# EAGLE library part EFM32_STK_G8XX_EXP_CONNECTOR_PROTOBOARD (library efm32_protoboard)
Expansion header footprint for the EFM32 STK G8xx starter kits.
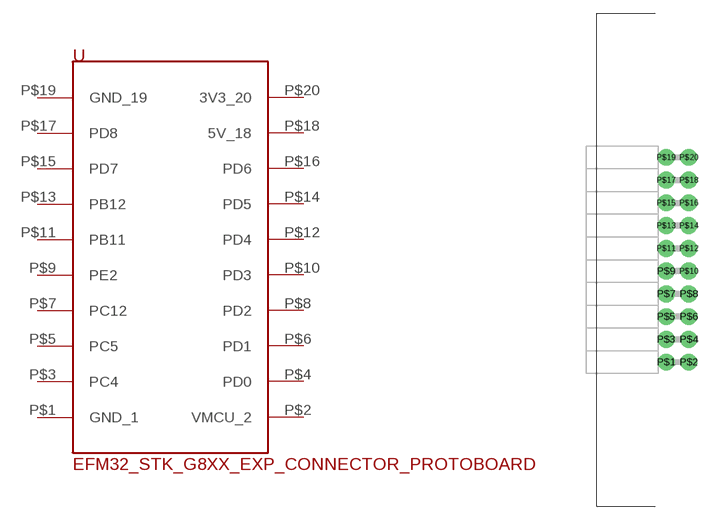
[diagram p4: symbol with the pads of EFM32_STK_EXP_CONNECTOR_PROTOBOARD; footprint EFM32_STK_EXP_CONNECTOR_PROTOBOARD]

Designator prefix U

## EFM32_STK_G8XX_EXP_CONNECTOR_PROTOBOARD  [EFM32_STK_EXP_CONNECTOR_PROTOBOARD]
P$1  GND_1
P$2  VMCU_2
P$3  PC4
P$4  PD0
P$5  PC5
P$6  PD1
P$7  PC12
P$8  PD2
P$9  PE2
P$10  PD3
P$11  PB11
P$12  PD4
P$13  PB12
P$14  PD5
P$15  PD7
P$16  PD6
P$17  PD8
P$18  5V_18
P$19  GND_19
P$20  3V3_20

## Footprint EFM32_STK_EXP_CONNECTOR_PROTOBOARD (pad centres in mm)
PCB footprint for a matching expansion connector for the Energy Micro EFM32 STK G8xx/3300/3600/3700 starter kits.
drill 1.016 pad 1.88: P$1 -1.27,-11.43; P$2 1.27,-11.43; P$3 -1.27,-8.89; P$4 1.27,-8.89; P$5 -1.27,-6.35; P$6 1.27,-6.35; P$7 -1.27,-3.81; P$8 1.27,-3.81; P$9 -1.27,-1.27; P$10 1.27,-1.27; P$11 -1.27,1.27; P$12 1.27,1.27; P$13 -1.27,3.81; P$14 1.27,3.81; P$15 -1.27,6.35; P$16 1.27,6.35; P$17 -1.27,8.89; P$18 1.27,8.89; P$19 -1.27,11.43; P$20 1.27,11.43